# EAGLE library part BQ27210_DRK_10 (library Micro2)
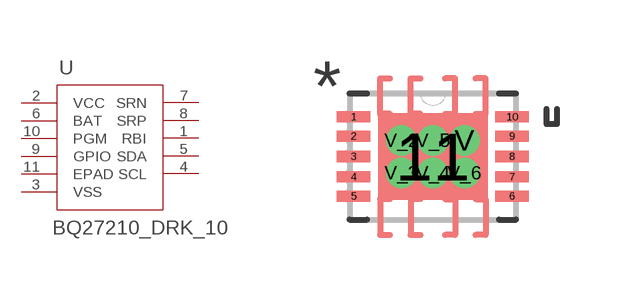
[diagram p1: symbol with the pads of DRK10_2P05X2P65; footprint DRK10_2P05X2P65]

Designator prefix U

## BQ27210_DRK_10 (DATASHEETURL: http://www.ti.com/lit/gpn/BQ27210; DESCRIPTION: Li-Ion and Li-Pol Battery Gas Gauge IC for Portable Applications (bqJUNIOR); FAMILY_NAME: BATTERY FUEL GAUGE; GENERIC_PART_NUMBER: BQ27210; INDUSTRY_STD_PKG_TYPE: VSON; MANUFACTURER: Texas Instruments; PACKAGE_DESIGNATOR: DRK; PIN_COUNT: 10)  [DRK10_2P05X2P65]
1  RBI  in
2  VCC  pwr
3  VSS  pwr
4  SCL  in
5  SDA
6  BAT  in
7  SRN  in
8  SRP  in
9  GPIO
10  PGM  in
11  EPAD  pwr

## Footprint DRK10_2P05X2P65 (pad centres in mm)
smd 0.838 x 0.279: 1 -1.981,0.991; 2 -1.981,0.508; 3 -1.981,0; 4 -1.981,-0.508; 5 -1.981,-0.991; 6 1.981,-0.991; 7 1.981,-0.508; 8 1.981,0; 9 1.981,0.508; 10 1.981,0.991
smd 2.743 x 2.159: 11 0,0
drill 0.254: V 0.787,0.406; V_2 -0.787,0.406; V_3 -0.787,-0.406; V_4 0,-0.406; V_5 0,0.406; V_6 0.787,-0.406